# Altium integrated library BLM03EB500SZ1D_Ferrite Bead.IntLib: 1 symbol
Pins are listed as number, name and electrical type; pins without a type are passive.

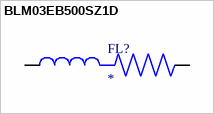
[diagram p0: symbol BLM03EB500SZ1D]

## BLM03EB500SZ1D
designator FL?
Ferrite Beads Multi-Layer 50Ohm 25% 100MHz 0.4A 0.58Ohm DCR 0201 Automotive T/R; MF: Murata; MP: BLM03EB500SZ1D; Check_prices: https://www.snapeda.com/parts/BLM03EB500SZ1D/Murata/view-part/2737591/?ref=eda; Value: *; SnapEDA_Link: https://www.snapeda.com/parts/BLM03EB500SZ1D/Murata/view-part/2737591/?ref=snap; Package: 0603 Murata; Availability: Warning; Price: None
footprint BEADC0603X33N
pins: 1, 2